# EAGLE library part ADS1298PAG (library Zoli2_2015-01-28)
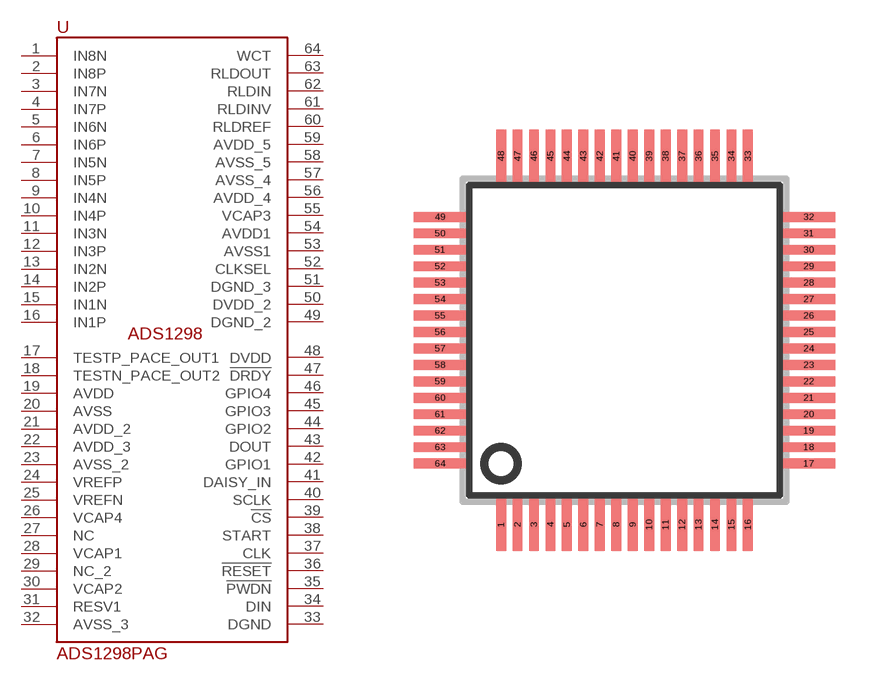
[diagram p61: symbol with the pads of SQFP-S-10X10-64; footprint SQFP-S-10X10-64]

Designator prefix -

## ADS1298PAG  [SQFP-S-10X10-64]
1  IN8N  in
2  IN8P  in
3  IN7N  in
4  IN7P  in
5  IN6N  in
6  IN6P  in
7  IN5N  in
8  IN5P  in
9  IN4N  in
10  IN4P  in
11  IN3N  in
12  IN3P  in
13  IN2N  in
14  IN2P  in
15  IN1N  in
16  IN1P  in
17  TESTP_PACE_OUT1
18  TESTN_PACE_OUT2
19  AVDD  pwr
20  AVSS  pwr
21  AVDD_2  pwr
22  AVDD_3  pwr
23  AVSS_2  pwr
24  VREFP
25  VREFN  in
26  VCAP4  out
27  NC  nc
28  VCAP1  out
29  NC_2  nc
30  VCAP2  out
31  RESV1  in
32  AVSS_3  pwr
33  DGND  pwr
34  DIN  in
35  !PWDN  in
36  !RESET  in
37  CLK  in
38  START  in
39  !CS  in
40  SCLK  in
41  DAISY_IN  in
42  GPIO1
43  DOUT  out
44  GPIO2
45  GPIO3
46  GPIO4
47  !DRDY  out
48  DVDD  pwr
49  DGND_2  pwr
50  DVDD_2  pwr
51  DGND_3  pwr
52  CLKSEL  in
53  AVSS1  pwr
54  AVDD1  pwr
55  VCAP3  out
56  AVDD_4  pwr
57  AVSS_4  pwr
58  AVSS_5  pwr
59  AVDD_5  pwr
60  RLDREF  in
61  RLDINV
62  RLDIN  in
63  RLDOUT  out
64  WCT  out

## Footprint SQFP-S-10X10-64 (pad centres in mm)
QFP64 shrink quad flat pack, square
smd 0.3 x 1.6: 1 -3.75,-5.6; 2 -3.25,-5.6; 3 -2.75,-5.6; 4 -2.25,-5.6; 5 -1.75,-5.6; 6 -1.25,-5.6; 7 -0.75,-5.6; 8 -0.25,-5.6; 9 0.25,-5.6; 10 0.75,-5.6; 11 1.25,-5.6; 12 1.75,-5.6; 13 2.25,-5.6; 14 2.75,-5.6; 15 3.25,-5.6; 16 3.75,-5.6; 33 3.75,5.6; 34 3.25,5.6; 35 2.75,5.6; 36 2.25,5.6; 37 1.75,5.6; 38 1.25,5.6; 39 0.75,5.6; 40 0.25,5.6; 41 -0.25,5.6; 42 -0.75,5.6; 43 -1.25,5.6; 44 -1.75,5.6; 45 -2.25,5.6; 46 -2.75,5.6; 47 -3.25,5.6; 48 -3.75,5.6
smd 1.6 x 0.3: 17 5.6,-3.75; 18 5.6,-3.25; 19 5.6,-2.75; 20 5.6,-2.25; 21 5.6,-1.75; 22 5.6,-1.25; 23 5.6,-0.75; 24 5.6,-0.25; 25 5.6,0.25; 26 5.6,0.75; 27 5.6,1.25; 28 5.6,1.75; 29 5.6,2.25; 30 5.6,2.75; 31 5.6,3.25; 32 5.6,3.75; 49 -5.6,3.75; 50 -5.6,3.25; 51 -5.6,2.75; 52 -5.6,2.25; 53 -5.6,1.75; 54 -5.6,1.25; 55 -5.6,0.75; 56 -5.6,0.25; 57 -5.6,-0.25; 58 -5.6,-0.75; 59 -5.6,-1.25; 60 -5.6,-1.75; 61 -5.6,-2.25; 62 -5.6,-2.75; 63 -5.6,-3.25; 64 -5.6,-3.75